# Altium footprint library jtag-isolator.PcbLib: 9 footprints
Each footprint in its own frame and in the unit in brackets; x right, y up, seen from the top. Pads: shape width x height; smd on the part's side, far side on the other; paste and mask are expansions set on the pad; w line width, h text height; cw(c..) or ccw(c..) is an arc to the next point about the centre after c.
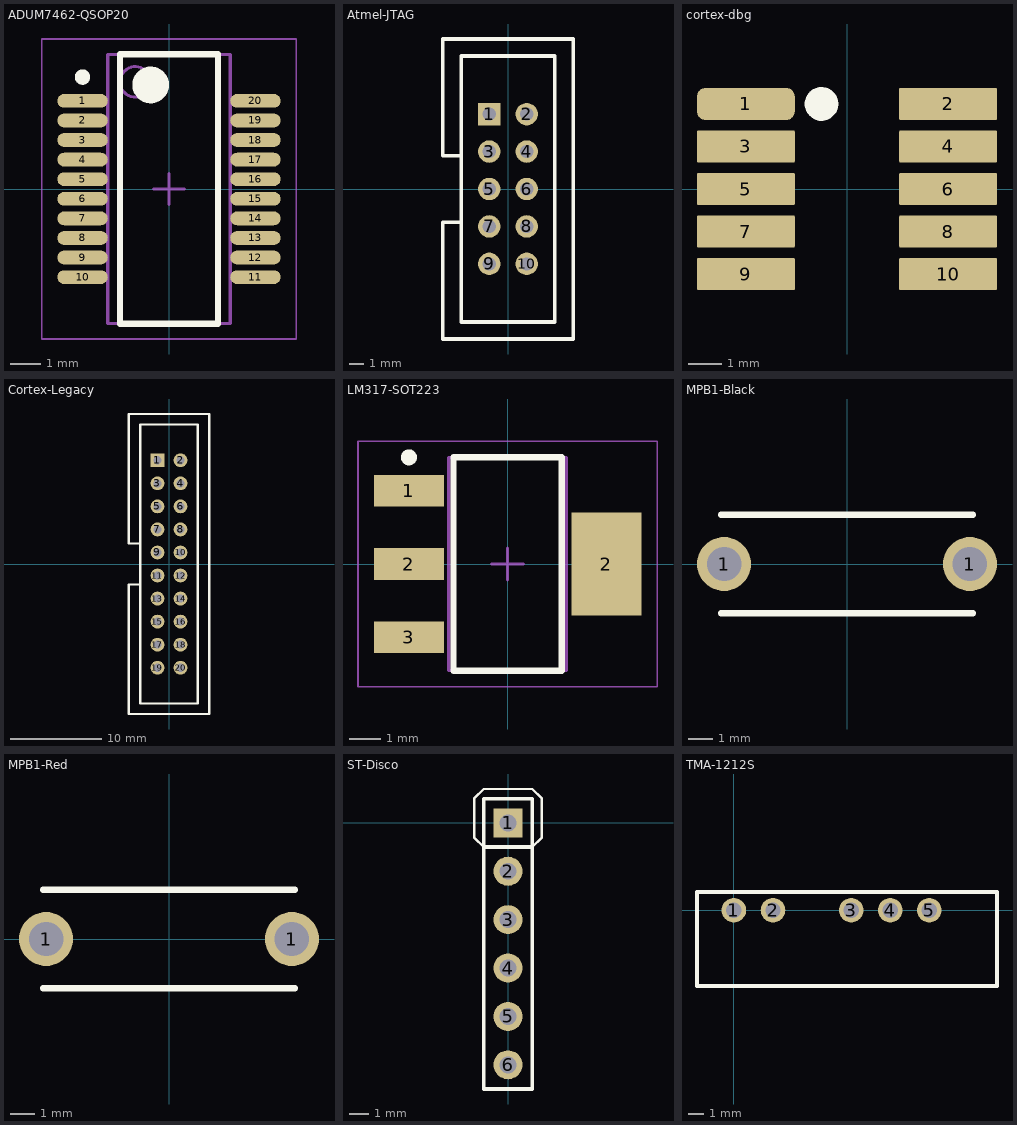
[diagram p0: the footprints below, top view; thin cyan lines are the x and y axes]

## ADUM7462-QSOP20 [mm] "SOP, 20-Leads, Body 8,66x3,91mm, Pitch 0,64mm, IPC Low Density"
height 1.9
pads (20):
  oval 1.65x0.45 smd: 1(-2.825,2.88) 2(-2.825,2.24) 3(-2.825,1.6) 4(-2.825,0.96) 5(-2.825,0.32) 6(-2.825,-0.32) 7(-2.825,-0.96) 8(-2.825,-1.6) 9(-2.825,-2.24) 10(-2.825,-2.88) 11(2.825,-2.88) 12(2.825,-2.24) 13(2.825,-1.6) 14(2.825,-0.96) 15(2.825,-0.32) 16(2.825,0.32) 17(2.825,0.96) 18(2.825,1.6) 19(2.825,2.24) 20(2.825,2.88)
Top Overlay:
  circle w0.25: c-2.825,3.655 r0.125
  circle w0.6: c-0.6,3.4 r0.3
  lines w0.2: -1.6,-4.4 -1.6,4.4 1.6,4.4 1.6,-4.4 -1.6,-4.4
Mechanical 13:
  circle w0.1: c-1.1,3.5 r0.5
  lines w0.1: -2,-4.4 -2,4.4 2,4.4 2,-4.4 -2,-4.4
Mechanical 15:
  lines w0.05: -4.15,-4.9 -4.15,4.9 4.15,4.9 4.15,-4.9 -4.15,-4.9
  lines w0.1: -0.5,0 0.5,0 ; 0,-0.5 0,0.5
3D body "ADUM7462-QSOP20.step": height 1.9, standoff 0, extent -2.997,-4.4 2.997,4.4

## Atmel-JTAG [mil]
pads (10):
  rect 60x60 hole 35: 1(-50,200)
  round 60 hole 35: 2(50,200) 3(-50,100) 4(50,100) 5(-50,0) 6(50,0) 7(-50,-100) 8(50,-100) 9(-50,-200) 10(50,-200)
Top Overlay:
  lines w10: -125,-88.58 -174.21,-88.58 -174.21,-400.79 174.21,-400.79 174.21,400.79 -174.21,400.79 -174.21,88.58 -125,88.58 ; -125,-355.12 125,-355.12 125,355.12 -125,355.12 -125,-355.12
3D body "STEP-61201021621-rev1.stp": height 351.38, standoff -125, extent -174.21,-400.79 187.01,400.78

## cortex-dbg [mm]
pads (10):
  rrect50% 2.92x0.95 smd: 1(-3.02,2.54)
  rrect5% 2.92x0.95 smd: 2(3.02,2.54) 3(-3.02,1.27) 4(3.02,1.27) 5(-3.02,0) 6(3.02,0) 7(-3.02,-1.27) 8(3.02,-1.27) 9(-3.02,-2.54) 10(3.02,-2.54)
Top Overlay:
  circle w0.5: c-0.762,2.54 r0.254
3D body "FTSH-105-01-L-DV-K.stp": height 6.16, standoff 0.04, extent -2.921,-3.175 2.921,3.175

## Cortex-Legacy [mil]
pads (20):
  rect 60x60 hole 35: 1(-50,450)
  round 60 hole 35: 2(50,450) 3(-50,350) 4(50,350) 5(-50,250) 6(50,250) 7(-50,150) 8(50,150) 9(-50,50) 10(50,50) 11(-50,-50) 12(50,-50) 13(-50,-150) 14(50,-150) 15(-50,-250) 16(50,-250) 17(-50,-350) 18(50,-350) 19(-50,-450) 20(50,-450)
Top Overlay:
  lines w10: -125,-88.58 -174.21,-88.58 -174.21,-650.79 174.21,-650.79 174.21,650.79 -174.21,650.79 -174.21,88.58 -125,88.58 ; -125,88.58 -125,605.12 125,605.12 125,-605.12 -125,-605.12 -125,88.58
3D body "STEP-61202021621-rev1.stp": height 351.38, standoff -125, extent -170.61,-655 190.61,646.57

## LM317-SOT223 [mm] "SOT223, 4-Leads, Body 6,50x7,00mm (avg), Pitch 2,30mm, IPC Low Density"
height 1.8
pads (4):
  rect 2.2x1 smd: 1(-3.1,2.3) 2(-3.1,0) 3(-3.1,-2.3)
  rect 2.2x3.25 smd: 2(3.1,0)
Top Overlay:
  circle w0.25: c-3.1,3.35 r0.125
  lines w0.2: -1.7,-3.35 -1.7,3.35 1.7,3.35 1.7,-3.35 -1.7,-3.35
Mechanical 13:
  lines w0.1: -1.85,-3.35 -1.85,3.35 1.85,3.35 1.85,-3.35 -1.85,-3.35
Mechanical 15:
  lines w0.05: -4.7,-3.85 -4.7,3.85 4.7,3.85 4.7,-3.85 -4.7,-3.85
  lines w0.1: -0.5,0 0.5,0 ; 0,-0.5 0,0.5
3D body "LM317-SOT223.step": height 1.8, standoff 0, extent -3.5,-3.35 3.5,3.35

## MPB1-Black [mm]
pads (2):
  round 2.2 hole 1.4: 1(-5,0) 1(5,0)
Top Overlay:
  lines w0.254: -5.125,-2 5.125,-2 ; -5.125,2 5.125,2
3D body: height 5.8, standoff 0, extent -5.125,-2 5.125,2

## MPB1-Red [mm]
pads (2):
  round 2.2 hole 1.4: 1(-5,0) 1(5,0)
Top Overlay:
  lines w0.254: -5.125,-2 5.125,-2 ; -5.125,2 5.125,2
3D body: height 5.8, standoff 0, extent -5.125,-2 5.125,2

## ST-Disco [mil]
pads (6):
  rect 60x60 hole 35: 1(0,0)
  round 60 hole 35: 2(0,-100) 3(0,-200) 4(0,-300) 5(0,-400) 6(0,-500)
Top Overlay:
  lines w5: -50,-50 -70,-30 -70,50 -50,70 50,70 70,50 70,-30 50,-50
  lines w7.87: -50,-50 50,-50 ; -50,-550 50,-550 50,50 -50,50 -50,-550
3D body: height 401.57, standoff -98.43, extent -11.81,-511.81 11.81,-488.19
3D body: height 401.57, standoff -98.43, extent -11.81,-411.81 11.81,-388.19
3D body: height 401.57, standoff -98.43, extent -11.81,-311.81 11.81,-288.19
3D body: height 401.57, standoff -98.43, extent -11.81,-11.81 11.81,11.81
3D body: height 98.43, standoff 0, extent -50,-550 49.41,48.82
3D body: height 401.57, standoff -98.43, extent -11.81,-111.81 11.81,-88.19
3D body: height 401.57, standoff -98.43, extent -11.81,-211.81 11.81,-188.19

## TMA-1212S [mm]
pads (5):
  round 1.6 hole 1: 1(0,0) 2(2.54,0) 3(7.62,0) 4(10.16,0) 5(12.7,0)
Top Overlay:
  lines w0.254: -2.4,-4.925 -2.4,1.175 17.1,1.175 17.1,-4.925 -2.4,-4.925
3D body "tma-5&12vin.stp": height 10.2, standoff -3.2, extent -2.4,-4.925 17.1,1.175